# Altium schematic symbol library Sch_LCEE.SchLib: 16 symbols
Pins are listed as number, name and electrical type; pins without a type are passive.

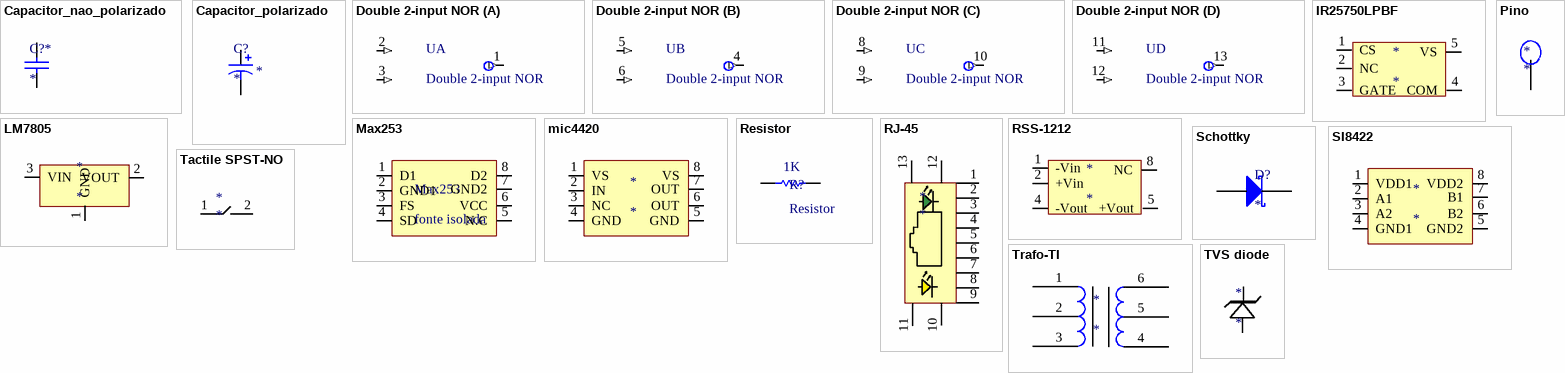
[diagram p0: symbols Capacitor_nao_polarizado to TVS diode]

## Capacitor_nao_polarizado
designator C?
Capacitor nao polarizado; Value: *
footprint Capacitor SMD - 0805 (0805)
footprint Capacitor SMD - 1206 (1206)
footprint Capacitor SMD - 0603 (0603)
footprint SMD 2220
pins: 1, 2

## Capacitor_polarizado
designator C?
Capacitor polarizado; Value: *
footprint CApacitor SMD - 22uF
pins: 1, 2

## Double 2-input NOR
designator U
SN74AUP2G02DCUR
footprint SOIC-14N (SOIC, 14-Leads, Body 8,61x3,90mm, Pitch 1,27mm, IPC Medium Density)
part A pins: 1 (out), 2 (in), 3 (in), 7 GND (power) hidden to GND, 14 VDD (power) hidden to +5V
part B pins: 4 (out), 5 (in), 6 (in)
part C pins: 8 (in), 9 (in), 10 (out)
part D pins: 11 (in), 12 (in), 13 (out)

## IR25750LPBF
designator *
CURRENT SENSING
footprint SOT23 (CURRENT SENSING)
pins: 1 CS, 2 NC, 3 GATE, 4 COM, 5 VS

## LM7805
designator *
pins: 1 GND, 2 VOUT, 3 VIN

## Max253
designator Max253, comment fonte isolada
footprint MAX253
pins: 1 D1, 2 GND1, 3 FS, 4 SD, 5 N.C, 6 VCC, 7 GND2, 8 D2

## mic4420
designator *
GATE DRIVE
footprint 8SOIC-2 (GATE DRIVE)
footprint 8SOIC (SI841)
pins: 1 VS, 2 IN, 3 NC, 4 GND, 5 GND, 6 OUT, 7 OUT, 8 VS

## Pino
designator *
footprint Pino
pins: 0

## Resistor
designator R?  value 1K
Published: 8-Jun-2000; LatestRevisionDate: 17-Jul-2002; LatestRevisionNote: Re-released for DXP Platform.; PackageReference: AXIAL-0.3; Publisher: Altium Limited; PackageDescription: Axial Device, Thru-Hole; 2 Leads; 0.3 in Pin Spacing
footprint Resistor 0603 - SMD (0603)
footprint Resistor 0805 - SMD (0805)
footprint Resistor 1206 - SMD (1206)
footprint Resistor-Axial
footprint Resistor 2512 - SMD (1206)
footprint Resistor-Axial - 2W
pins: 1, 2

## RJ-45
designator *
pins: 1, 2, 3, 4, 5, 6, 7, 8, 9, 10, 11, 12, 13

## RSS-1212
designator *
Fonte isolada
footprint RSS-1212 (fonte isolada)
pins: 1 -Vin, 2 +Vin, 4 -Vout, 5 +Vout, 8 NC

## Schottky
designator D?
Diodo Schottky
footprint MBRS340T3G (Diodo Schottky)
footprint SOD-123 (Diodo)
pins: 1 A, 2 K

## SI8422
designator *
DIGITAL ISOLATOR
footprint 8SOIC (SI841)
pins: 1 VDD1, 2 A1, 3 A2, 4 GND1, 5 GND2, 6 B2, 7 B1, 8 VDD2

## Tactile SPST-NO
designator *
footprint Tactile SPST-NO (switch)
pins: 1, 2

## Trafo-TI
designator *
footprint Trafo (transformador smd TI)
pins: 1, 2, 3, 4, 5, 6

## TVS diode
designator *
footprint TVS Diode
pins: 1 P, 2 N